# Altium footprint library 2440PCBV5_20140403.PcbLib: 166 footprints (part 6 of 11)
Each footprint in its own frame and in the unit in brackets; x right, y up, seen from the top. Pads: shape width x height; smd on the part's side, far side on the other; paste and mask are expansions set on the pad; w line width, h text height; cw(c..) or ccw(c..) is an arc to the next point about the centre after c.
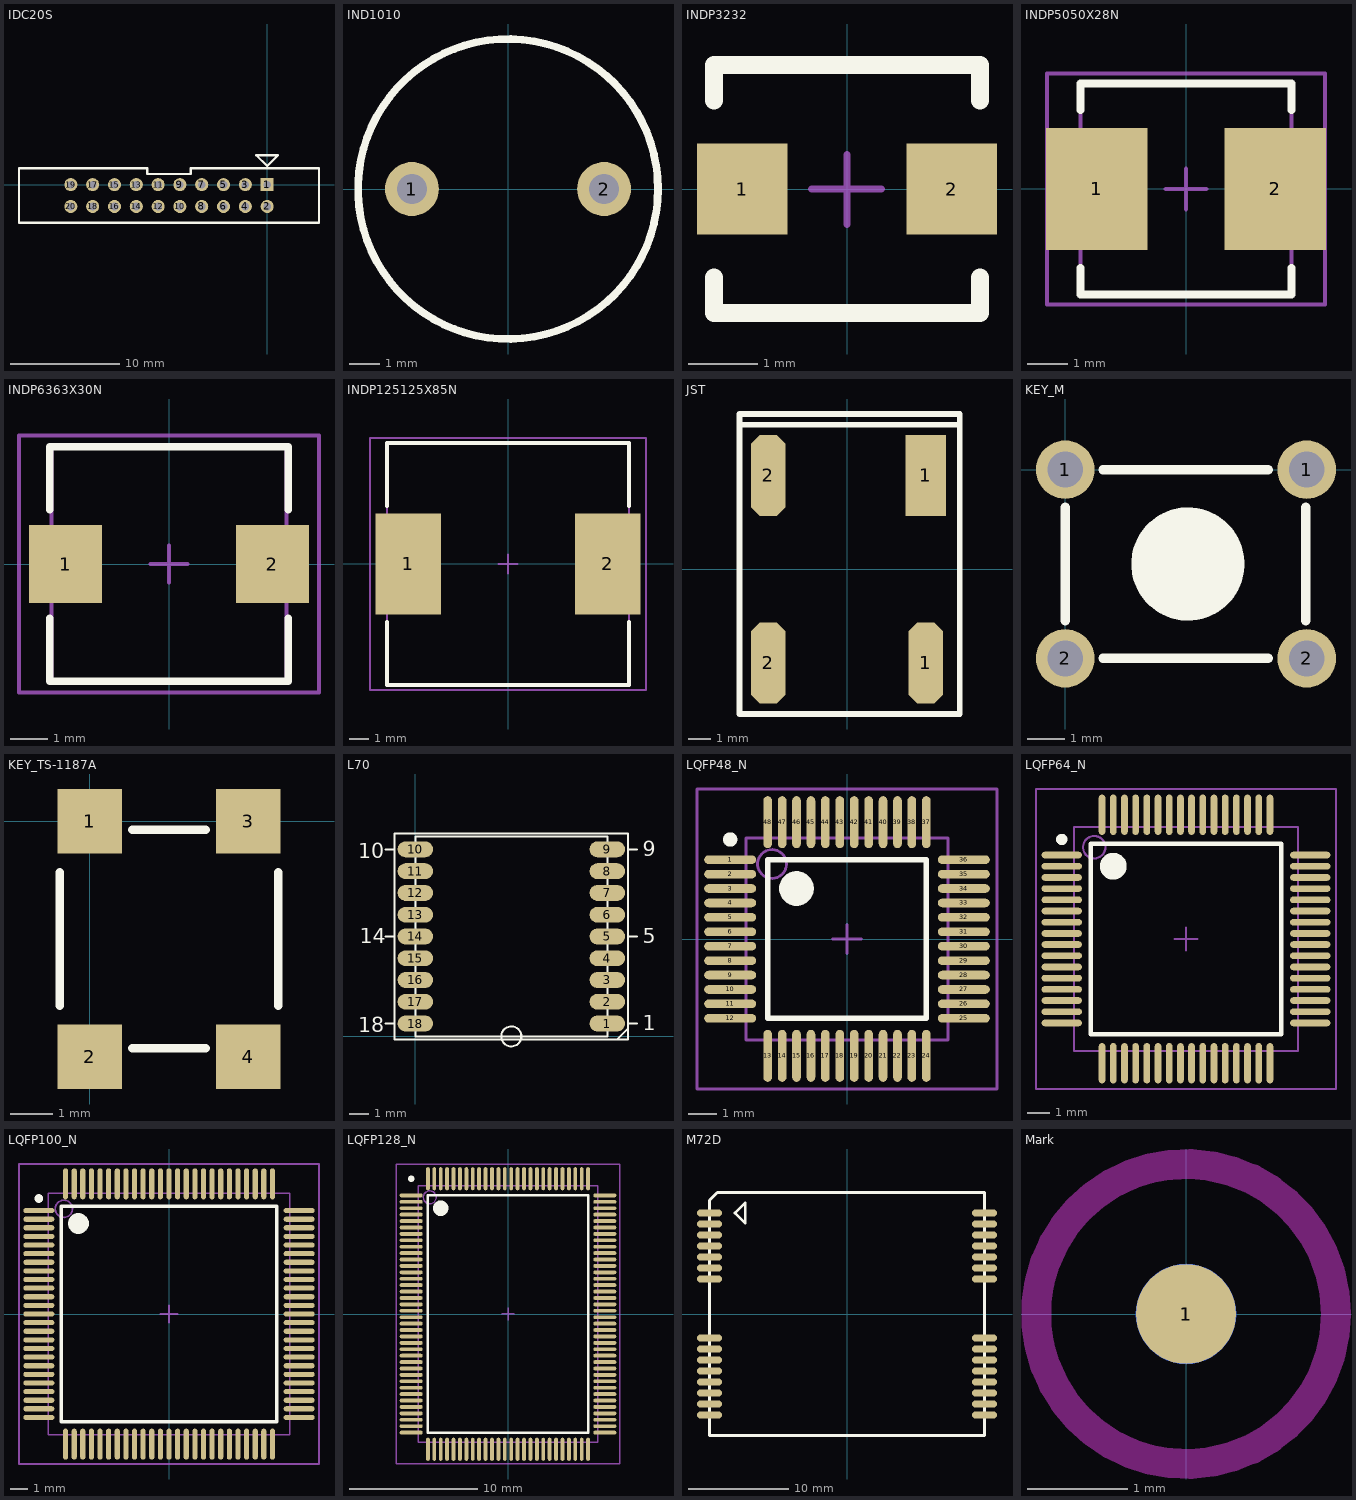
[diagram p5: the footprints below, top view; thin cyan lines are the x and y axes]

## IDC20S [mm]
pads (20):
  rect 1.2x1.2 hole 0.7: 1(0.002,0.017)
  round 1.2 hole 0.7: 2(0.002,-1.983) 3(-1.998,0.017) 4(-1.998,-1.983) 5(-3.998,0.017) 6(-3.998,-1.983) 7(-5.998,0.017) 8(-5.998,-1.983) 9(-7.998,0.017) 10(-7.998,-1.983) 11(-9.998,0.017) 12(-9.998,-1.983) 13(-11.998,0.017) 14(-11.998,-1.983) 15(-13.998,0.017) 16(-13.998,-1.983) 17(-15.998,0.017) 18(-15.998,-1.983) 19(-17.998,0.017) 20(-17.998,-1.983)
Top Overlay:
  lines w0.2: -22.748,-3.483 4.752,-3.483 4.752,1.517 -6.998,1.517 -6.998,0.992 -10.998,0.992 -10.998,1.517 -22.748,1.517 -22.748,-3.483 ; -0.998,2.717 1.002,2.717 0.002,1.717 -0.998,2.717
3D body: height 0, standoff 0, extent -18.856,-2.841 0.86,0.875

## IND1010 [mm]
pads (2):
  round 1.8 hole 1: 1(-3.201,0) 2(3.202,0)
Top Overlay:
  circle w0.254: c0,0 r5
3D body: height 13.5, standoff 3.5, extent -5.01,-5.01 5.01,5.01

## INDP3232 [mm]
height 12
pads (2):
  rect 1.3x1.3 smd: 1(-1.5,0) 2(1.5,0)
Top Overlay:
  lines w0.254: -1.905,-1.27 -1.905,-1.778 1.905,-1.778 1.905,-1.27 ; -1.905,1.27 -1.905,1.778 1.905,1.778 1.905,1.27
Mechanical 15:
  lines w0.1: -0.508,0 0.492,0 ; 0,-0.508 0,0.492
3D body: height 2, standoff 0, extent -2.152,-2.176 2.2,2.176

## INDP5050X28N [mm]
pads (2):
  rect 2.5x3 smd: 1(-2.2,0) 2(2.2,0)
Top Overlay:
  lines w0.2: -2.6,-1.95 -2.6,-2.6 2.6,-2.6 2.6,-1.95 ; -2.6,1.95 -2.6,2.6 2.6,2.6 2.6,1.95
Mechanical 13:
  lines w0.1: -2.6,-2.6 -2.6,2.6 2.6,2.6 2.6,-2.6 -2.6,-2.6
Mechanical 15:
  lines w0.1: -0.5,0 0.5,0 ; 0,-0.5 0,0.5 ; -3.425,-2.85 -3.425,2.85 3.425,2.85 3.425,-2.85 -3.425,-2.85
3D body: height 2, standoff 0, extent -1.565,-1.533 1.512,1.544

## INDP6363X30N [mm] "Precision Wire Wound Inductor, 2-Leads, Body 6.3x6.3mm, IPC Medium Density"
height 3
pads (2):
  rect 1.95x2.1 smd: 1(-2.775,0) 2(2.775,0)
Top Overlay:
  lines w0.2: -3.2,-1.45 -3.2,-3.15 3.2,-3.15 3.2,-1.45 ; -3.2,1.45 -3.2,3.15 3.2,3.15 3.2,1.45
Mechanical 13:
  lines w0.1: -3.15,-3.15 -3.15,3.15 3.15,3.15 3.15,-3.15 -3.15,-3.15
Mechanical 15:
  lines w0.1: -0.5,0 0.5,0 ; 0,-0.5 0,0.5 ; -4.025,-3.45 -4.025,3.45 4.025,3.45 4.025,-3.45 -4.025,-3.45
3D body: height 3, standoff 0, extent -3.15,-3.15 3.15,3.15

## INDP125125X85N [mm]
pads (2):
  rect 3.4x5.2 smd: 1(-5.15,0) 2(5.15,0)
Top Overlay:
  lines w0.2: -6.25,-3 -6.25,-6.25 6.25,-6.25 6.25,-3 ; -6.25,3 -6.25,6.25 6.25,6.25 6.25,3
Mechanical 13:
  lines w0.1: -6.25,-6.25 -6.25,6.25 6.25,6.25 6.25,-6.25 -6.25,-6.25
Mechanical 15:
  lines w0.1: -0.5,0 0.5,0 ; 0,-0.5 0,0.5 ; -7.125,-6.5 -7.125,6.5 7.125,6.5 7.125,-6.5 -7.125,-6.5
3D body: height 5.5, standoff -0.64, extent -6.114,-6.13 6.186,6.17

## JST [mm]
pads (4):
  oct 1.524x3.6 smd: 1(3.5,-4.161) 2(-3.5,-4.161) 2(-3.5,4.161)
  rect 1.8x3.6 smd: 1(3.5,4.161)
Top Overlay:
  lines w0.254: -4.751,6.406 4.999,6.406 ; 4.952,-6.425 -4.769,-6.425 -4.769,6.889 4.952,6.889 ; 4.999,-6.425 4.999,6.889
3D body: height 1.27, standoff 0, extent -4.845,-6.407 4.992,6.953

## KEY_M [mil]
pads (4):
  round 62 hole 38: 1(0,0) 1(255.91,0) 2(0,-200) 2(255.91,-200)
Top Overlay:
  circle w60: c130,-100 r30
  lines w10: -0.03,-160 -0.03,-40 ; 39.97,-200 215,-200 ; 39.97,0 215,0 ; 255,-160 255,-40

## KEY_TS-1187A [mm] "TS-1187A tact switch, Chi Fung Electronics"
height 5
pads (4):
  rect 1.5x1.5 smd mask+0.07: 1(0,0) 2(0,-5.5) 3(3.7,0) 4(3.7,-5.5)
Top Overlay:
  lines w0.203: -0.7,-4.3 -0.7,-1.2 ; 1,-5.3 2.7,-5.3 ; 1,-0.2 2.7,-0.2 ; 4.4,-4.3 4.4,-1.2
3D body: height 1, standoff 0, extent -0.7,-5.3 4.4,-0.2
3D body: height 1.6, standoff 0, extent 0.809,-3.798 3,-1.602

## L70 [mm]
pads (18):
  oval 1.8x0.8 smd: 1(9.7,0.65) 2(9.7,1.75) 3(9.7,2.85) 4(9.7,3.95) 5(9.7,5.05) 6(9.7,6.15) 7(9.7,7.25) 8(9.7,8.35) 9(9.7,9.45) 10(0,9.45) 11(0,8.35) 12(0,7.25) 13(0,6.15) 14(0,5.05) 15(0,3.95) 16(0,2.85) 17(0,1.75) 18(0,0.65)
Top Overlay:
  circle w0.102: c4.85,0 r0.508
  lines w0.102: -1.5,0.65 -1.05,0.65 ; -1.5,5.05 -1.05,5.05 ; -1.5,9.45 -1.05,9.45 ; 10.2,-0.15 10.75,0.4 ; 10.75,0.65 11.2,0.65 ; 10.75,5.05 11.2,5.05 ; 10.75,9.45 11.2,9.45 ; -1.05,-0.15 10.75,-0.15 10.75,10.25 -1.05,10.25 -1.05,-0.15 ; 0,0 9.7,0 9.7,10.1 0,10.1 0,0
  text "1" at 11.5,0.3 h0.76
  text "5" at 11.5,4.7 h0.76
  text "9" at 11.5,9.1 h0.76
  text "10" at -2.9,9 h0.76
  text "14" at -2.8,4.7 h0.76
  text "18" at -2.9,0.2 h0.76

## LQFP48_N [mm] "Thin QFP, 48-Leads, Body 7x7mm, Pitch 0.5mm, IPC Medium Density"
height 1.6
pads (48):
  oval 1.8x0.3 smd: 1(-4.05,2.75) 2(-4.05,2.25) 3(-4.05,1.75) 4(-4.05,1.25) 5(-4.05,0.75) 6(-4.05,0.25) 7(-4.05,-0.25) 8(-4.05,-0.75) 9(-4.05,-1.25) 10(-4.05,-1.75) 11(-4.05,-2.25) 12(-4.05,-2.75) 25(4.05,-2.75) 26(4.05,-2.25) 27(4.05,-1.75) 28(4.05,-1.25) 29(4.05,-0.75) 30(4.05,-0.25) 31(4.05,0.25) 32(4.05,0.75) 33(4.05,1.25) 34(4.05,1.75) 35(4.05,2.25) 36(4.05,2.75)
  oval 0.3x1.8 smd: 13(-2.75,-4.05) 14(-2.25,-4.05) 15(-1.75,-4.05) 16(-1.25,-4.05) 17(-0.75,-4.05) 18(-0.25,-4.05) 19(0.25,-4.05) 20(0.75,-4.05) 21(1.25,-4.05) 22(1.75,-4.05) 23(2.25,-4.05) 24(2.75,-4.05) 37(2.75,4.05) 38(2.25,4.05) 39(1.75,4.05) 40(1.25,4.05) 41(0.75,4.05) 42(0.25,4.05) 43(-0.25,4.05) 44(-0.75,4.05) 45(-1.25,4.05) 46(-1.75,4.05) 47(-2.25,4.05) 48(-2.75,4.05)
Top Overlay:
  circle w0.6: c-1.75,1.75 r0.3
  circle w0.25: c-4.05,3.45 r0.125
  lines w0.2: -2.75,-2.75 2.75,-2.75 2.75,2.75 -2.75,2.75 -2.75,-2.75
Mechanical 13:
  circle w0.1: c-2.6,2.6 r0.5
  lines w0.1: -3.5,-3.5 3.5,-3.5 3.5,3.5 -3.5,3.5 -3.5,-3.5
Mechanical 15:
  lines w0.1: -0.5,0 0.5,0 ; 0,-0.5 0,0.5 ; -5.2,-5.2 5.2,-5.2 5.2,5.2 -5.2,5.2 -5.2,-5.2
3D body: height 1.6, standoff 0, extent -3.5,-3.5 3.5,3.5

## LQFP64_N [mm] "Thin QFP, 64-Leads, Body 10x10mm, Pitch 0.5mm, IPC Medium Density"
height 1.6
pads (64):
  oval 1.8x0.3 smd: 1(-1206.97,-1190.812) 2(-1206.97,-1191.312) 3(-1206.97,-1191.812) 4(-1206.97,-1192.312) 5(-1206.97,-1192.812) 6(-1206.97,-1193.312) 7(-1206.97,-1193.812) 8(-1206.97,-1194.312) 9(-1206.97,-1194.812) 10(-1206.97,-1195.312) 11(-1206.97,-1195.812) 12(-1206.97,-1196.312) 13(-1206.97,-1196.812) 14(-1206.97,-1197.312) 15(-1206.97,-1197.812) 16(-1206.97,-1198.312) 33(-1195.87,-1198.312) 34(-1195.87,-1197.812) 35(-1195.87,-1197.312) 36(-1195.87,-1196.812) 37(-1195.87,-1196.312) 38(-1195.87,-1195.812) 39(-1195.87,-1195.312) 40(-1195.87,-1194.812) 41(-1195.87,-1194.312) 42(-1195.87,-1193.812) 43(-1195.87,-1193.312) 44(-1195.87,-1192.812) 45(-1195.87,-1192.312) 46(-1195.87,-1191.812) 47(-1195.87,-1191.312) 48(-1195.87,-1190.812)
  oval 0.3x1.8 smd: 17(-1205.17,-1200.112) 18(-1204.67,-1200.112) 19(-1204.17,-1200.112) 20(-1203.67,-1200.112) 21(-1203.17,-1200.112) 22(-1202.67,-1200.112) 23(-1202.17,-1200.112) 24(-1201.67,-1200.112) 25(-1201.17,-1200.112) 26(-1200.67,-1200.112) 27(-1200.17,-1200.112) 28(-1199.67,-1200.112) 29(-1199.17,-1200.112) 30(-1198.67,-1200.112) 31(-1198.17,-1200.112) 32(-1197.67,-1200.112) 49(-1197.67,-1189.012) 50(-1198.17,-1189.012) 51(-1198.67,-1189.012) 52(-1199.17,-1189.012) 53(-1199.67,-1189.012) 54(-1200.17,-1189.012) 55(-1200.67,-1189.012) 56(-1201.17,-1189.012) 57(-1201.67,-1189.012) 58(-1202.17,-1189.012) 59(-1202.67,-1189.012) 60(-1203.17,-1189.012) 61(-1203.67,-1189.012) 62(-1204.17,-1189.012) 63(-1204.67,-1189.012) 64(-1205.17,-1189.012)
Top Overlay:
  circle w0.25: c-1206.97,-1190.112 r0.125
  circle w0.6: c-1204.67,-1191.312 r0.3
  lines w0.2: -1205.67,-1198.812 -1205.67,-1190.312 -1197.17,-1190.312 -1197.17,-1198.812 -1205.67,-1198.812
Mechanical 13:
  circle w0.1: c-1205.52,-1190.462 r0.5
  lines w0.1: -1206.42,-1199.562 -1206.42,-1189.562 -1196.42,-1189.562 -1196.42,-1199.562 -1206.42,-1199.562
Mechanical 15:
  lines w0.1: -1201.92,-1194.562 -1200.92,-1194.562 ; -1201.42,-1195.062 -1201.42,-1194.062 ; -1208.12,-1201.262 -1208.12,-1187.862 -1194.72,-1187.862 -1194.72,-1201.262 -1208.12,-1201.262
3D body: height 1.6, standoff 0, extent -1206.42,-1199.562 -1196.42,-1189.562

## LQFP100_N [mm] "Thin QFP, 100-Leads, Body 14x14mm, Pitch 0.5mm, IPC Medium Density"
height 1.6
pads (100):
  oval 1.8x0.3 smd: 1(-7.55,6) 2(-7.55,5.5) 3(-7.55,5) 4(-7.55,4.5) 5(-7.55,4) 6(-7.55,3.5) 7(-7.55,3) 8(-7.55,2.5) 9(-7.55,2) 10(-7.55,1.5) 11(-7.55,1) 12(-7.55,0.5) 13(-7.55,0) 14(-7.55,-0.5) 15(-7.55,-1) 16(-7.55,-1.5) 17(-7.55,-2) 18(-7.55,-2.5) 19(-7.55,-3) 20(-7.55,-3.5) 21(-7.55,-4) 22(-7.55,-4.5) 23(-7.55,-5) 24(-7.55,-5.5) 25(-7.55,-6) 51(7.55,-6) 52(7.55,-5.5) 53(7.55,-5) 54(7.55,-4.5) 55(7.55,-4) 56(7.55,-3.5) 57(7.55,-3) 58(7.55,-2.5) 59(7.55,-2) 60(7.55,-1.5) 61(7.55,-1) 62(7.55,-0.5) 63(7.55,0) 64(7.55,0.5) 65(7.55,1) 66(7.55,1.5) 67(7.55,2) 68(7.55,2.5) 69(7.55,3) 70(7.55,3.5) 71(7.55,4) 72(7.55,4.5) 73(7.55,5) 74(7.55,5.5) 75(7.55,6)
  oval 0.3x1.8 smd: 26(-6,-7.55) 27(-5.5,-7.55) 28(-5,-7.55) 29(-4.5,-7.55) 30(-4,-7.55) 31(-3.5,-7.55) 32(-3,-7.55) 33(-2.5,-7.55) 34(-2,-7.55) 35(-1.5,-7.55) 36(-1,-7.55) 37(-0.5,-7.55) 38(0,-7.55) 39(0.5,-7.55) 40(1,-7.55) 41(1.5,-7.55) 42(2,-7.55) 43(2.5,-7.55) 44(3,-7.55) 45(3.5,-7.55) 46(4,-7.55) 47(4.5,-7.55) 48(5,-7.55) 49(5.5,-7.55) 50(6,-7.55) 76(6,7.55) 77(5.5,7.55) 78(5,7.55) 79(4.5,7.55) 80(4,7.55) 81(3.5,7.55) 82(3,7.55) 83(2.5,7.55) 84(2,7.55) 85(1.5,7.55) 86(1,7.55) 87(0.5,7.55) 88(0,7.55) 89(-0.5,7.55) 90(-1,7.55) 91(-1.5,7.55) 92(-2,7.55) 93(-2.5,7.55) 94(-3,7.55) 95(-3.5,7.55) 96(-4,7.55) 97(-4.5,7.55) 98(-5,7.55) 99(-5.5,7.55) 100(-6,7.55)
Top Overlay:
  circle w0.6: c-5.25,5.25 r0.3
  circle w0.25: c-7.55,6.7 r0.125
  lines w0.2: -6.25,-6.25 6.25,-6.25 6.25,6.25 -6.25,6.25 -6.25,-6.25
Mechanical 13:
  circle w0.1: c-6.1,6.1 r0.5
  lines w0.1: -7,-7 7,-7 7,7 -7,7 -7,-7
Mechanical 15:
  lines w0.1: -0.5,0 0.5,0 ; 0,-0.5 0,0.5 ; -8.7,-8.7 8.7,-8.7 8.7,8.7 -8.7,8.7 -8.7,-8.7
3D body: height 1.6, standoff 0, extent -7,-7 7,7

## LQFP128_N [mm] "Thin QFP, 128-Leads, Body 20x14 mm, Pitch 0.5mm, IPC Medium Density"
height 1.6
pads (128):
  oval 1.8x0.3 smd: 1(-7.55,9.25) 2(-7.55,8.75) 3(-7.55,8.25) 4(-7.55,7.75) 5(-7.55,7.25) 6(-7.55,6.75) 7(-7.55,6.25) 8(-7.55,5.75) 9(-7.55,5.25) 10(-7.55,4.75) 11(-7.55,4.25) 12(-7.55,3.75) 13(-7.55,3.25) 14(-7.55,2.75) 15(-7.55,2.25) 16(-7.55,1.75) 17(-7.55,1.25) 18(-7.55,0.75) 19(-7.55,0.25) 20(-7.55,-0.25) 21(-7.55,-0.75) 22(-7.55,-1.25) 23(-7.55,-1.75) 24(-7.55,-2.25) 25(-7.55,-2.75) 26(-7.55,-3.25) 27(-7.55,-3.75) 28(-7.55,-4.25) 29(-7.55,-4.75) 30(-7.55,-5.25) 31(-7.55,-5.75) 32(-7.55,-6.25) 33(-7.55,-6.75) 34(-7.55,-7.25) 35(-7.55,-7.75) 36(-7.55,-8.25) 37(-7.55,-8.75) 38(-7.55,-9.25) 65(7.55,-9.25) 66(7.55,-8.75) 67(7.55,-8.25) 68(7.55,-7.75) 69(7.55,-7.25) 70(7.55,-6.75) 71(7.55,-6.25) 72(7.55,-5.75) 73(7.55,-5.25) 74(7.55,-4.75) 75(7.55,-4.25) 76(7.55,-3.75) 77(7.55,-3.25) 78(7.55,-2.75) 79(7.55,-2.25) 80(7.55,-1.75) 81(7.55,-1.25) 82(7.55,-0.75) 83(7.55,-0.25) 84(7.55,0.25) 85(7.55,0.75) 86(7.55,1.25) 87(7.55,1.75) 88(7.55,2.25) 89(7.55,2.75) 90(7.55,3.25) 91(7.55,3.75) 92(7.55,4.25) 93(7.55,4.75) 94(7.55,5.25) 95(7.55,5.75) 96(7.55,6.25) 97(7.55,6.75) 98(7.55,7.25) 99(7.55,7.75) 100(7.55,8.25) 101(7.55,8.75) 102(7.55,9.25)
  oval 0.3x1.8 smd: 39(-6.25,-10.55) 40(-5.75,-10.55) 41(-5.25,-10.55) 42(-4.75,-10.55) 43(-4.25,-10.55) 44(-3.75,-10.55) 45(-3.25,-10.55) 46(-2.75,-10.55) 47(-2.25,-10.55) 48(-1.75,-10.55) 49(-1.25,-10.55) 50(-0.75,-10.55) 51(-0.25,-10.55) 52(0.25,-10.55) 53(0.75,-10.55) 54(1.25,-10.55) 55(1.75,-10.55) 56(2.25,-10.55) 57(2.75,-10.55) 58(3.25,-10.55) 59(3.75,-10.55) 60(4.25,-10.55) 61(4.75,-10.55) 62(5.25,-10.55) 63(5.75,-10.55) 64(6.25,-10.55) 103(6.25,10.55) 104(5.75,10.55) 105(5.25,10.55) 106(4.75,10.55) 107(4.25,10.55) 108(3.75,10.55) 109(3.25,10.55) 110(2.75,10.55) 111(2.25,10.55) 112(1.75,10.55) 113(1.25,10.55) 114(0.75,10.55) 115(0.25,10.55) 116(-0.25,10.55) 117(-0.75,10.55) 118(-1.25,10.55) 119(-1.75,10.55) 120(-2.25,10.55) 121(-2.75,10.55) 122(-3.25,10.55) 123(-3.75,10.55) 124(-4.25,10.55) 125(-4.75,10.55) 126(-5.25,10.55) 127(-5.75,10.55) 128(-6.25,10.55)
Top Overlay:
  circle w0.25: c-7.55,10.55 r0.125
  circle w0.6: c-5.25,8.25 r0.3
  lines w0.2: -6.25,-9.25 -6.25,9.25 6.25,9.25 6.25,-9.25 -6.25,-9.25
Mechanical 13:
  circle w0.1: c-6.1,9.1 r0.5
  lines w0.1: -7,-10 -7,10 7,10 7,-10 -7,-10
Mechanical 15:
  lines w0.1: -0.5,0 0.5,0 ; 0,-0.5 0,0.5 ; -8.7,-11.7 -8.7,11.7 8.7,11.7 8.7,-11.7 -8.7,-11.7
3D body: height 1.6, standoff 0, extent -7,-10 7,10

## M72D [mm]
pads (30):
  oval 2.5x0.7 smd: 1(-13.75,10.1) 2(-13.75,9) 3(-13.75,7.9) 4(-13.75,6.8) 5(-13.75,5.7) 6(-13.75,4.6) 7(-13.75,3.5) 8(-13.75,-2.4) 9(-13.75,-3.5) 10(-13.75,-4.6) 11(-13.75,-5.7) 12(-13.75,-6.8) 13(-13.75,-7.9) 14(-13.75,-9) 15(-13.75,-10.1) 16(13.75,-10.1) 17(13.75,-9) 18(13.75,-7.9) 19(13.75,-6.8) 20(13.75,-5.7) 21(13.75,-4.6) 22(13.75,-3.5) 23(13.75,-2.4) 24(13.75,3.5) 25(13.75,4.6) 26(13.75,5.7) 27(13.75,6.8) 28(13.75,7.9) 29(13.75,9) 30(13.75,10.1)
Top Overlay:
  lines w0.254: -11.21,10.1 -10.194,9.084 -10.194,11.116 -11.21,10.1
  lines w0.3: -13.75,-12.15 13.75,-12.15 13.75,12.15 -12.843,12.15 -12.97,12.15 -13.75,11.37 -13.75,-12.15

## Mark [mm]
height 0.55
pads (2):
  round 1 smd paste+0 mask+1: 1(0,0)
  round 1 smd far side paste+0 mask+1: 1(0,0)
Keep-Out Layer:
  circle w0.3: c0,0 r1.5